# EAGLE library part TPS23750PWP (library TPS23750PWP)
Texas Instruments TPS23750PWP, DC-DC Controller, 20-Pin, HTSSOP Source: Datasheet <http://www.ti.com/lit/gpn/TPS23750>
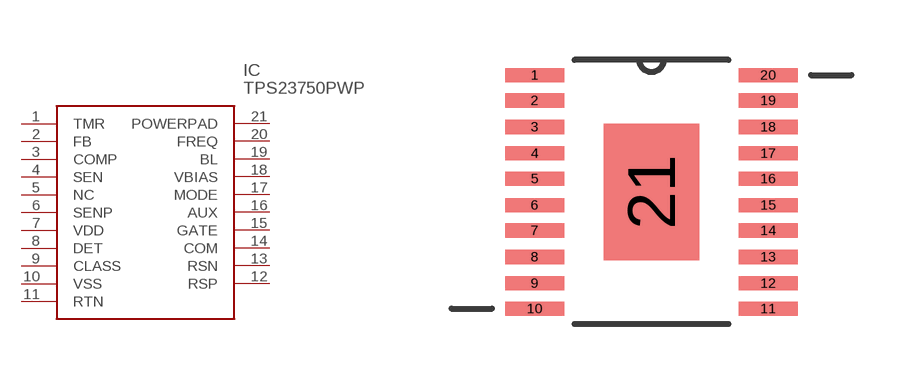
[diagram p0: symbol with the pads of SOP65P640X120-21N; footprint SOP65P640X120-21N]

Designator prefix IC

## TPS23750PWP (Description: Texas Instruments TPS23750PWP, DC-DC Controller, 20-Pin, HTSSOP; Height: mm; Manufacturer_Name: Texas Instruments; Manufacturer_Part_Number: TPS23750PWP; Mouser_Part_Number: 595-TPS23750PWP; Mouser_Price-Stock: https://www.mouser.com/Search/Refine.aspx?Keyword=595-TPS23750PWP; RS_Part_Number: 6200824; RS_Price-Stock: https://uk.rs-online.com/web/p/products/6200824)  [SOP65P640X120-21N]
1  TMR
2  FB
3  COMP
4  SEN
5  NC  nc
6  SENP
7  VDD
8  DET
9  CLASS
10  VSS
11  RTN
12  RSP
13  RSN
14  COM
15  GATE
16  AUX
17  MODE
18  VBIAS
19  BL
20  FREQ
21  POWERPAD

## Footprint SOP65P640X120-21N (pad centres in mm)
SOP65P640X120-21N
smd 1.473 x 0.356: 1 -2.921,2.921; 2 -2.921,2.286; 3 -2.921,1.626; 4 -2.921,0.965; 5 -2.921,0.33; 6 -2.921,-0.33; 7 -2.921,-0.965; 8 -2.921,-1.626; 9 -2.921,-2.286; 10 -2.921,-2.921; 11 2.921,-2.921; 12 2.921,-2.286; 13 2.921,-1.626; 14 2.921,-0.965; 15 2.921,-0.33; 16 2.921,0.33; 17 2.921,0.965; 18 2.921,1.626; 19 2.921,2.286; 20 2.921,2.921
smd 2.388 x 3.404: 21 0,0